# EAGLE library part 428547320911 (library Wurth_Elektronik_Electromechanic_Switch_rev17b)
7x7 mm washable THT arrow type <http://katalog.we-online.de/media/images/v2/Family_WS-ROtV_THT_Rotary_Switch_428547320910.jpg> Details see: http://katalog.we-online.de/en/em/ROTV_7X7_WASHABLE_THT_ARROW_TYPE 2015 (C) Würth Elektronik
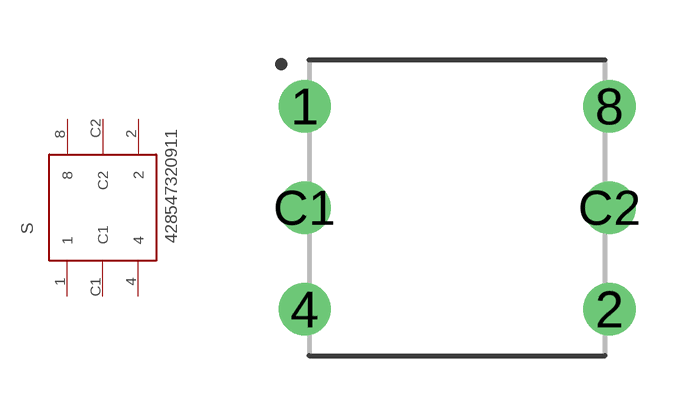
[diagram p104: symbol with the pads of 428547320911; footprint 428547320911]

Designator prefix S

## 428547320911  [428547320911]
1  1  pas
2  2  pas
4  4  pas
8  8  pas
C1  C1  pas
C2  C2  pas

## Footprint 428547320911 (pad centres in mm)
WS-RAT, 7x7 mm washable THT Rotary Switch, 6 pins, 10 positions, round Arrow type, orange actuator, complement code
drill 0.8: 1 -3.81,2.54; 2 3.81,-2.54; 4 -3.81,-2.54; 8 3.81,2.54; C1 -3.81,0; C2 3.81,0